# Altium footprint library Connectors Rectangular 3.00 MicroFit.PcbLib: 1 footprints
Each footprint in its own frame and in the unit in brackets; x right, y up, seen from the top. Pads: shape width x height; smd on the part's side, far side on the other; paste and mask are expansions set on the pad; w line width, h text height; cw(c..) or ccw(c..) is an arc to the next point about the centre after c.
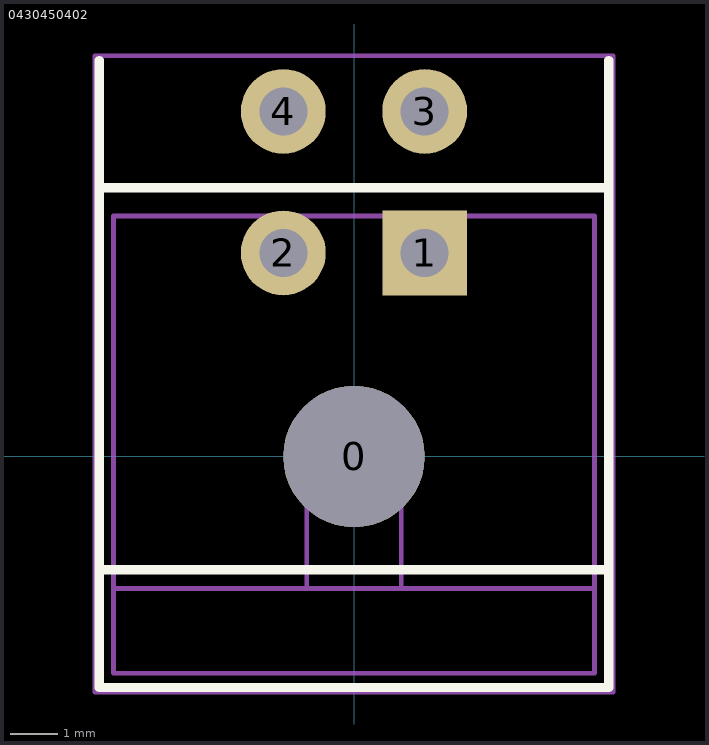
[diagram p0: the footprint, top view; thin cyan lines are the x and y axes]

## 0430450402 [mm]
height 7.37
pads (5):
  round 3 hole 3 unplated paste+0 mask+0.102: 0(0,0)
  rect 1.8x1.8 hole 1.02: 1(1.5,4.32)
  round 1.8 hole 1.02: 2(-1.5,4.32) 3(1.5,7.32) 4(-1.5,7.32)
Top Overlay:
  lines w0.2: -5.4,-2.4 5.4,-2.4 ; -5.4,5.7 5.4,5.7 ; -5.4,8.4 -5.4,-4.9 5.4,-4.9 5.4,8.4
Top Package:
  circle w0.1: c1.5,4.32 r0.4
  circle w0.1: c-1.5,4.32 r0.4
  circle w0.1: c-1.5,7.32 r0.4
  circle w0.1: c1.5,7.32 r0.4
  lines w0.1: -5.1,-2.8 5.1,-2.8 ; -1,-2.8 -1,-1 1,-1 1,-2.8 ; -5.1,-4.6 -5.1,5.1 5.1,5.1 5.1,-4.6 -5.1,-4.6
Top Comment:
  text ".Comment" at -2.84,1.848 h2
Top Designator:
  text ".Designator" at -3.443,2.033 h2
Top Border:
  lines w0.1: -0.5,0 0.5,0 ; 0,-0.5 0,0.5 ; -5.5,-5 5.5,-5 5.5,8.5 -5.5,8.5 -5.5,-5
3D body "430450402.stp": height 8.83, standoff -3.12, extent -5.075,-4.6 5.075,7.64